# Altium footprint library NEC Footprints.PcbLib: 31 footprints (part 2 of 2)
Each footprint in its own frame and in the unit in brackets; x right, y up, seen from the top. Pads: shape width x height; smd on the part's side, far side on the other; paste and mask are expansions set on the pad; w line width, h text height; cw(c..) or ccw(c..) is an arc to the next point about the centre after c.
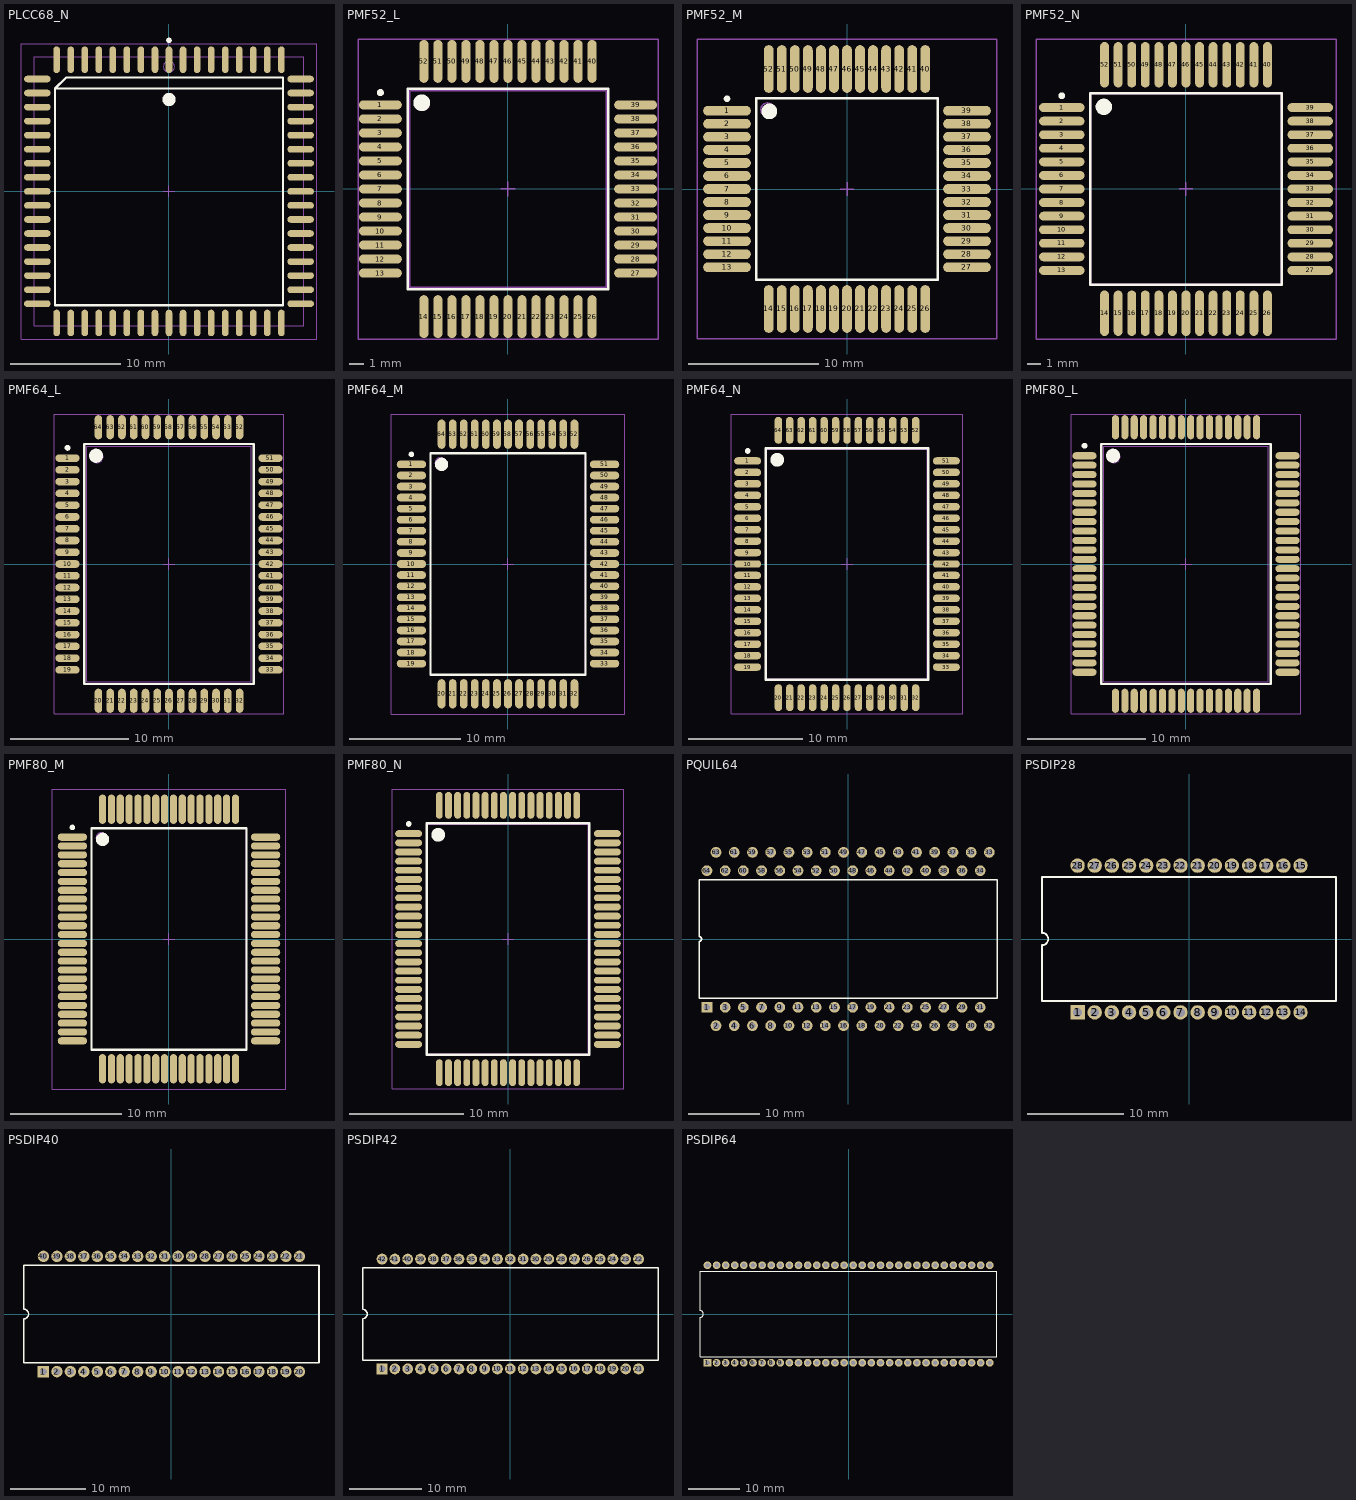
[diagram p1: the footprints below, top view; thin cyan lines are the x and y axes]

## PLCC68_N [mm] "68-Pin Leaded Chip Carrier 1.27 mm Pitch, IPC Medium Density"
height 4.6
pads (68):
  oval 0.6x2.4 smd: 1(0,11.9) 2(-1.27,11.9) 3(-2.54,11.9) 4(-3.81,11.9) 5(-5.08,11.9) 6(-6.35,11.9) 7(-7.62,11.9) 8(-8.89,11.9) 9(-10.16,11.9) 27(-10.16,-11.9) 28(-8.89,-11.9) 29(-7.62,-11.9) 30(-6.35,-11.9) 31(-5.08,-11.9) 32(-3.81,-11.9) 33(-2.54,-11.9) 34(-1.27,-11.9) 35(0,-11.9) 36(1.27,-11.9) 37(2.54,-11.9) 38(3.81,-11.9) 39(5.08,-11.9) 40(6.35,-11.9) 41(7.62,-11.9) 42(8.89,-11.9) 43(10.16,-11.9) 61(10.16,11.9) 62(8.89,11.9) 63(7.62,11.9) 64(6.35,11.9) 65(5.08,11.9) 66(3.81,11.9) 67(2.54,11.9) 68(1.27,11.9)
  oval 2.4x0.6 smd: 10(-11.9,10.16) 11(-11.9,8.89) 12(-11.9,7.62) 13(-11.9,6.35) 14(-11.9,5.08) 15(-11.9,3.81) 16(-11.9,2.54) 17(-11.9,1.27) 18(-11.9,0) 19(-11.9,-1.27) 20(-11.9,-2.54) 21(-11.9,-3.81) 22(-11.9,-5.08) 23(-11.9,-6.35) 24(-11.9,-7.62) 25(-11.9,-8.89) 26(-11.9,-10.16) 44(11.9,-10.16) 45(11.9,-8.89) 46(11.9,-7.62) 47(11.9,-6.35) 48(11.9,-5.08) 49(11.9,-3.81) 50(11.9,-2.54) 51(11.9,-1.27) 52(11.9,0) 53(11.9,1.27) 54(11.9,2.54) 55(11.9,3.81) 56(11.9,5.08) 57(11.9,6.35) 58(11.9,7.62) 59(11.9,8.89) 60(11.9,10.16)
Top Overlay:
  circle w0.25: c0,13.65 r0.125
  circle w0.6: c0,8.3 r0.3
  lines w0.2: 10.3,9.3 -10.3,9.3 ; -10.3,9.3 -9.3,10.3 10.3,10.3 10.3,-10.3 -10.3,-10.3 -10.3,9.3
Mechanical 13:
  circle w0.1: c0,11.265 r0.5
  lines w0.1: -12.165,-12.165 -12.165,12.165 12.165,12.165 12.165,-12.165 -12.165,-12.165
Mechanical 15:
  lines w0.1: -0.5,0 0.5,0 ; 0,-0.5 0,0.5 ; -13.35,-13.35 -13.35,13.35 13.35,13.35 13.35,-13.35 -13.35,-13.35
3D body: height 4.6, standoff 0, extent -12.165,-12.165 12.165,12.165

## PMF52_L [mm] "52-Pin Quad Flat Pack 1 mm Pitch, IPC High Density"
height 2.8
pads (52):
  oval 3.05x0.65 smd: 1(-9.1,6) 2(-9.1,5) 3(-9.1,4) 4(-9.1,3) 5(-9.1,2) 6(-9.1,1) 7(-9.1,0) 8(-9.1,-1) 9(-9.1,-2) 10(-9.1,-3) 11(-9.1,-4) 12(-9.1,-5) 13(-9.1,-6) 27(9.1,-6) 28(9.1,-5) 29(9.1,-4) 30(9.1,-3) 31(9.1,-2) 32(9.1,-1) 33(9.1,0) 34(9.1,1) 35(9.1,2) 36(9.1,3) 37(9.1,4) 38(9.1,5) 39(9.1,6)
  oval 0.65x3.05 smd: 14(-6,-9.1) 15(-5,-9.1) 16(-4,-9.1) 17(-3,-9.1) 18(-2,-9.1) 19(-1,-9.1) 20(0,-9.1) 21(1,-9.1) 22(2,-9.1) 23(3,-9.1) 24(4,-9.1) 25(5,-9.1) 26(6,-9.1) 40(6,9.1) 41(5,9.1) 42(4,9.1) 43(3,9.1) 44(2,9.1) 45(1,9.1) 46(0,9.1) 47(-1,9.1) 48(-2,9.1) 49(-3,9.1) 50(-4,9.1) 51(-5,9.1) 52(-6,9.1)
Top Overlay:
  circle w0.25: c-9.1,6.875 r0.125
  circle w0.6: c-6.15,6.15 r0.3
  lines w0.2: -7.15,-7.15 -7.15,7.15 7.15,7.15 7.15,-7.15 -7.15,-7.15
Mechanical 13:
  circle w0.1: c-6.1,6.1 r0.5
  lines w0.1: -7,-7 -7,7 7,7 7,-7 -7,-7
Mechanical 15:
  lines w0.1: -0.5,0 0.5,0 ; 0,-0.5 0,0.5 ; -10.7,-10.7 -10.7,10.7 10.7,10.7 10.7,-10.7 -10.7,-10.7
3D body: height 2.8, standoff 0, extent -7,-7 7,7

## PMF52_M [mm] "52-Pin Quad Flat Pack 1 mm Pitch, IPC Low Density"
height 2.8
pads (52):
  oval 3.65x0.75 smd: 1(-9.2,6) 2(-9.2,5) 3(-9.2,4) 4(-9.2,3) 5(-9.2,2) 6(-9.2,1) 7(-9.2,0) 8(-9.2,-1) 9(-9.2,-2) 10(-9.2,-3) 11(-9.2,-4) 12(-9.2,-5) 13(-9.2,-6) 27(9.2,-6) 28(9.2,-5) 29(9.2,-4) 30(9.2,-3) 31(9.2,-2) 32(9.2,-1) 33(9.2,0) 34(9.2,1) 35(9.2,2) 36(9.2,3) 37(9.2,4) 38(9.2,5) 39(9.2,6)
  oval 0.75x3.65 smd: 14(-6,-9.2) 15(-5,-9.2) 16(-4,-9.2) 17(-3,-9.2) 18(-2,-9.2) 19(-1,-9.2) 20(0,-9.2) 21(1,-9.2) 22(2,-9.2) 23(3,-9.2) 24(4,-9.2) 25(5,-9.2) 26(6,-9.2) 40(6,9.2) 41(5,9.2) 42(4,9.2) 43(3,9.2) 44(2,9.2) 45(1,9.2) 46(0,9.2) 47(-1,9.2) 48(-2,9.2) 49(-3,9.2) 50(-4,9.2) 51(-5,9.2) 52(-6,9.2)
Top Overlay:
  circle w0.25: c-9.2,6.925 r0.125
  circle w0.6: c-5.95,5.95 r0.3
  lines w0.2: -6.95,-6.95 -6.95,6.95 6.95,6.95 6.95,-6.95 -6.95,-6.95
Mechanical 13:
  circle w0.1: c-6.1,6.1 r0.5
  lines w0.1: -7,-7 -7,7 7,7 7,-7 -7,-7
Mechanical 15:
  lines w0.1: -0.5,0 0.5,0 ; 0,-0.5 0,0.5 ; -11.5,-11.5 -11.5,11.5 11.5,11.5 11.5,-11.5 -11.5,-11.5
3D body: height 2.8, standoff 0, extent -7,-7 7,7

## PMF52_N [mm] "52-Pin Quad Flat Pack 1 mm Pitch, IPC Medium Density"
height 2.8
pads (52):
  oval 3.35x0.65 smd: 1(-9.15,6) 2(-9.15,5) 3(-9.15,4) 4(-9.15,3) 5(-9.15,2) 6(-9.15,1) 7(-9.15,0) 8(-9.15,-1) 9(-9.15,-2) 10(-9.15,-3) 11(-9.15,-4) 12(-9.15,-5) 13(-9.15,-6) 27(9.15,-6) 28(9.15,-5) 29(9.15,-4) 30(9.15,-3) 31(9.15,-2) 32(9.15,-1) 33(9.15,0) 34(9.15,1) 35(9.15,2) 36(9.15,3) 37(9.15,4) 38(9.15,5) 39(9.15,6)
  oval 0.65x3.35 smd: 14(-6,-9.15) 15(-5,-9.15) 16(-4,-9.15) 17(-3,-9.15) 18(-2,-9.15) 19(-1,-9.15) 20(0,-9.15) 21(1,-9.15) 22(2,-9.15) 23(3,-9.15) 24(4,-9.15) 25(5,-9.15) 26(6,-9.15) 40(6,9.15) 41(5,9.15) 42(4,9.15) 43(3,9.15) 44(2,9.15) 45(1,9.15) 46(0,9.15) 47(-1,9.15) 48(-2,9.15) 49(-3,9.15) 50(-4,9.15) 51(-5,9.15) 52(-6,9.15)
Top Overlay:
  circle w0.25: c-9.15,6.875 r0.125
  circle w0.6: c-6.05,6.05 r0.3
  lines w0.2: -7.05,-7.05 -7.05,7.05 7.05,7.05 7.05,-7.05 -7.05,-7.05
Mechanical 13:
  circle w0.1: c-6.1,6.1 r0.5
  lines w0.1: -7,-7 -7,7 7,7 7,-7 -7,-7
Mechanical 15:
  lines w0.1: -0.5,0 0.5,0 ; 0,-0.5 0,0.5 ; -11.05,-11.05 -11.05,11.05 11.05,11.05 11.05,-11.05 -11.05,-11.05
3D body: height 2.8, standoff 0, extent -7,-7 7,7

## PMF64_L [mm] "64-Pin Quad Flat Pack Rectangular 1 mm Pitch, IPC High Density"
height 2.3
pads (64):
  oval 2.05x0.65 smd: 1(-8.625,9) 2(-8.625,8) 3(-8.625,7) 4(-8.625,6) 5(-8.625,5) 6(-8.625,4) 7(-8.625,3) 8(-8.625,2) 9(-8.625,1) 10(-8.625,0) 11(-8.625,-1) 12(-8.625,-2) 13(-8.625,-3) 14(-8.625,-4) 15(-8.625,-5) 16(-8.625,-6) 17(-8.625,-7) 18(-8.625,-8) 19(-8.625,-9) 33(8.625,-9) 34(8.625,-8) 35(8.625,-7) 36(8.625,-6) 37(8.625,-5) 38(8.625,-4) 39(8.625,-3) 40(8.625,-2) 41(8.625,-1) 42(8.625,0) 43(8.625,1) 44(8.625,2) 45(8.625,3) 46(8.625,4) 47(8.625,5) 48(8.625,6) 49(8.625,7) 50(8.625,8) 51(8.625,9)
  oval 0.65x2.05 smd: 20(-6,-11.625) 21(-5,-11.625) 22(-4,-11.625) 23(-3,-11.625) 24(-2,-11.625) 25(-1,-11.625) 26(0,-11.625) 27(1,-11.625) 28(2,-11.625) 29(3,-11.625) 30(4,-11.625) 31(5,-11.625) 32(6,-11.625) 52(6,11.625) 53(5,11.625) 54(4,11.625) 55(3,11.625) 56(2,11.625) 57(1,11.625) 58(0,11.625) 59(-1,11.625) 60(-2,11.625) 61(-3,11.625) 62(-4,11.625) 63(-5,11.625) 64(-6,11.625)
Top Overlay:
  circle w0.6: c-6.2,9.2 r0.3
  circle w0.25: c-8.625,9.875 r0.125
  lines w0.2: -7.2,-10.2 7.2,-10.2 7.2,10.2 -7.2,10.2 -7.2,-10.2
Mechanical 13:
  circle w0.1: c-6.1,9.1 r0.5
  lines w0.1: -7,-10 7,-10 7,10 -7,10 -7,-10
Mechanical 15:
  lines w0.1: -0.5,0 0.5,0 ; 0,-0.5 0,0.5 ; -9.75,-12.75 9.75,-12.75 9.75,12.75 -9.75,12.75 -9.75,-12.75
3D body: height 2.3, standoff 0, extent -7,-10 7,10

## PMF64_M [mm] "64-Pin Quad Flat Pack Rectangular 1 mm Pitch, IPC Low Density"
height 2.3
pads (64):
  oval 2.65x0.7 smd: 1(-8.725,9) 2(-8.725,8) 3(-8.725,7) 4(-8.725,6) 5(-8.725,5) 6(-8.725,4) 7(-8.725,3) 8(-8.725,2) 9(-8.725,1) 10(-8.725,0) 11(-8.725,-1) 12(-8.725,-2) 13(-8.725,-3) 14(-8.725,-4) 15(-8.725,-5) 16(-8.725,-6) 17(-8.725,-7) 18(-8.725,-8) 19(-8.725,-9) 33(8.725,-9) 34(8.725,-8) 35(8.725,-7) 36(8.725,-6) 37(8.725,-5) 38(8.725,-4) 39(8.725,-3) 40(8.725,-2) 41(8.725,-1) 42(8.725,0) 43(8.725,1) 44(8.725,2) 45(8.725,3) 46(8.725,4) 47(8.725,5) 48(8.725,6) 49(8.725,7) 50(8.725,8) 51(8.725,9)
  oval 0.7x2.65 smd: 20(-6,-11.725) 21(-5,-11.725) 22(-4,-11.725) 23(-3,-11.725) 24(-2,-11.725) 25(-1,-11.725) 26(0,-11.725) 27(1,-11.725) 28(2,-11.725) 29(3,-11.725) 30(4,-11.725) 31(5,-11.725) 32(6,-11.725) 52(6,11.725) 53(5,11.725) 54(4,11.725) 55(3,11.725) 56(2,11.725) 57(1,11.725) 58(0,11.725) 59(-1,11.725) 60(-2,11.725) 61(-3,11.725) 62(-4,11.725) 63(-5,11.725) 64(-6,11.725)
Top Overlay:
  circle w0.25: c-8.725,9.9 r0.125
  circle w0.6: c-6,9 r0.3
  lines w0.2: -7,-10 -7,10 7,10 7,-10 -7,-10
Mechanical 13:
  circle w0.1: c-6.1,9.1 r0.5
  lines w0.1: -7,-10 -7,10 7,10 7,-10 -7,-10
Mechanical 15:
  lines w0.1: -0.5,0 0.5,0 ; 0,-0.5 0,0.5 ; -10.55,-13.55 -10.55,13.55 10.55,13.55 10.55,-13.55 -10.55,-13.55
3D body: height 2.3, standoff 0, extent -7,-10 7,10

## PMF64_N [mm] "64-Pin Quad Flat Pack Rectangular 1 mm Pitch, IPC Medium Density"
height 2.3
pads (64):
  oval 2.35x0.65 smd: 1(-8.675,9) 2(-8.675,8) 3(-8.675,7) 4(-8.675,6) 5(-8.675,5) 6(-8.675,4) 7(-8.675,3) 8(-8.675,2) 9(-8.675,1) 10(-8.675,0) 11(-8.675,-1) 12(-8.675,-2) 13(-8.675,-3) 14(-8.675,-4) 15(-8.675,-5) 16(-8.675,-6) 17(-8.675,-7) 18(-8.675,-8) 19(-8.675,-9) 33(8.675,-9) 34(8.675,-8) 35(8.675,-7) 36(8.675,-6) 37(8.675,-5) 38(8.675,-4) 39(8.675,-3) 40(8.675,-2) 41(8.675,-1) 42(8.675,0) 43(8.675,1) 44(8.675,2) 45(8.675,3) 46(8.675,4) 47(8.675,5) 48(8.675,6) 49(8.675,7) 50(8.675,8) 51(8.675,9)
  oval 0.65x2.35 smd: 20(-6,-11.675) 21(-5,-11.675) 22(-4,-11.675) 23(-3,-11.675) 24(-2,-11.675) 25(-1,-11.675) 26(0,-11.675) 27(1,-11.675) 28(2,-11.675) 29(3,-11.675) 30(4,-11.675) 31(5,-11.675) 32(6,-11.675) 52(6,11.675) 53(5,11.675) 54(4,11.675) 55(3,11.675) 56(2,11.675) 57(1,11.675) 58(0,11.675) 59(-1,11.675) 60(-2,11.675) 61(-3,11.675) 62(-4,11.675) 63(-5,11.675) 64(-6,11.675)
Top Overlay:
  circle w0.6: c-6.1,9.1 r0.3
  circle w0.25: c-8.675,9.875 r0.125
  lines w0.2: -7.1,-10.1 7.1,-10.1 7.1,10.1 -7.1,10.1 -7.1,-10.1
Mechanical 13:
  circle w0.1: c-6.1,9.1 r0.5
  lines w0.1: -7,-10 7,-10 7,10 -7,10 -7,-10
Mechanical 15:
  lines w0.1: -0.5,0 0.5,0 ; 0,-0.5 0,0.5 ; -10.1,-13.1 10.1,-13.1 10.1,13.1 -10.1,13.1 -10.1,-13.1
3D body: height 2.3, standoff 0, extent -7,-10 7,10

## PMF80_L [mm] "80-Pin Quad Flat Pack Rectangular 0.8 mm Pitch, IPC High Density"
height 2.3
pads (80):
  oval 2.05x0.6 smd: 1(-8.625,9.2) 2(-8.625,8.4) 3(-8.625,7.6) 4(-8.625,6.8) 5(-8.625,6) 6(-8.625,5.2) 7(-8.625,4.4) 8(-8.625,3.6) 9(-8.625,2.8) 10(-8.625,2) 11(-8.625,1.2) 12(-8.625,0.4) 13(-8.625,-0.4) 14(-8.625,-1.2) 15(-8.625,-2) 16(-8.625,-2.8) 17(-8.625,-3.6) 18(-8.625,-4.4) 19(-8.625,-5.2) 20(-8.625,-6) 21(-8.625,-6.8) 22(-8.625,-7.6) 23(-8.625,-8.4) 24(-8.625,-9.2) 41(8.625,-9.2) 42(8.625,-8.4) 43(8.625,-7.6) 44(8.625,-6.8) 45(8.625,-6) 46(8.625,-5.2) 47(8.625,-4.4) 48(8.625,-3.6) 49(8.625,-2.8) 50(8.625,-2) 51(8.625,-1.2) 52(8.625,-0.4) 53(8.625,0.4) 54(8.625,1.2) 55(8.625,2) 56(8.625,2.8) 57(8.625,3.6) 58(8.625,4.4) 59(8.625,5.2) 60(8.625,6) 61(8.625,6.8) 62(8.625,7.6) 63(8.625,8.4) 64(8.625,9.2)
  oval 0.6x2.05 smd: 25(-6,-11.625) 26(-5.2,-11.625) 27(-4.4,-11.625) 28(-3.6,-11.625) 29(-2.8,-11.625) 30(-2,-11.625) 31(-1.2,-11.625) 32(-0.4,-11.625) 33(0.4,-11.625) 34(1.2,-11.625) 35(2,-11.625) 36(2.8,-11.625) 37(3.6,-11.625) 38(4.4,-11.625) 39(5.2,-11.625) 40(6,-11.625) 65(6,11.625) 66(5.2,11.625) 67(4.4,11.625) 68(3.6,11.625) 69(2.8,11.625) 70(2,11.625) 71(1.2,11.625) 72(0.4,11.625) 73(-0.4,11.625) 74(-1.2,11.625) 75(-2,11.625) 76(-2.8,11.625) 77(-3.6,11.625) 78(-4.4,11.625) 79(-5.2,11.625) 80(-6,11.625)
Top Overlay:
  circle w0.6: c-6.2,9.2 r0.3
  circle w0.25: c-8.625,10.05 r0.125
  lines w0.2: -7.2,-10.2 7.2,-10.2 7.2,10.2 -7.2,10.2 -7.2,-10.2
Mechanical 13:
  circle w0.1: c-6.1,9.1 r0.5
  lines w0.1: -7,-10 7,-10 7,10 -7,10 -7,-10
Mechanical 15:
  lines w0.1: -0.5,0 0.5,0 ; 0,-0.5 0,0.5 ; -9.75,-12.75 9.75,-12.75 9.75,12.75 -9.75,12.75 -9.75,-12.75
3D body: height 2.3, standoff 0, extent -7,-10 7,10

## PMF80_M [mm] "80-Pin Quad Flat Pack Rectangular 0.8 mm Pitch, IPC Low Density"
height 2.3
pads (80):
  oval 2.65x0.65 smd: 1(-8.725,9.2) 2(-8.725,8.4) 3(-8.725,7.6) 4(-8.725,6.8) 5(-8.725,6) 6(-8.725,5.2) 7(-8.725,4.4) 8(-8.725,3.6) 9(-8.725,2.8) 10(-8.725,2) 11(-8.725,1.2) 12(-8.725,0.4) 13(-8.725,-0.4) 14(-8.725,-1.2) 15(-8.725,-2) 16(-8.725,-2.8) 17(-8.725,-3.6) 18(-8.725,-4.4) 19(-8.725,-5.2) 20(-8.725,-6) 21(-8.725,-6.8) 22(-8.725,-7.6) 23(-8.725,-8.4) 24(-8.725,-9.2) 41(8.725,-9.2) 42(8.725,-8.4) 43(8.725,-7.6) 44(8.725,-6.8) 45(8.725,-6) 46(8.725,-5.2) 47(8.725,-4.4) 48(8.725,-3.6) 49(8.725,-2.8) 50(8.725,-2) 51(8.725,-1.2) 52(8.725,-0.4) 53(8.725,0.4) 54(8.725,1.2) 55(8.725,2) 56(8.725,2.8) 57(8.725,3.6) 58(8.725,4.4) 59(8.725,5.2) 60(8.725,6) 61(8.725,6.8) 62(8.725,7.6) 63(8.725,8.4) 64(8.725,9.2)
  oval 0.65x2.65 smd: 25(-6,-11.725) 26(-5.2,-11.725) 27(-4.4,-11.725) 28(-3.6,-11.725) 29(-2.8,-11.725) 30(-2,-11.725) 31(-1.2,-11.725) 32(-0.4,-11.725) 33(0.4,-11.725) 34(1.2,-11.725) 35(2,-11.725) 36(2.8,-11.725) 37(3.6,-11.725) 38(4.4,-11.725) 39(5.2,-11.725) 40(6,-11.725) 65(6,11.725) 66(5.2,11.725) 67(4.4,11.725) 68(3.6,11.725) 69(2.8,11.725) 70(2,11.725) 71(1.2,11.725) 72(0.4,11.725) 73(-0.4,11.725) 74(-1.2,11.725) 75(-2,11.725) 76(-2.8,11.725) 77(-3.6,11.725) 78(-4.4,11.725) 79(-5.2,11.725) 80(-6,11.725)
Top Overlay:
  circle w0.6: c-6,9 r0.3
  circle w0.25: c-8.725,10.075 r0.125
  lines w0.2: -7,-10 7,-10 7,10 -7,10 -7,-10
Mechanical 13:
  circle w0.1: c-6.1,9.1 r0.5
  lines w0.1: -7,-10 7,-10 7,10 -7,10 -7,-10
Mechanical 15:
  lines w0.1: -0.5,0 0.5,0 ; 0,-0.5 0,0.5 ; -10.55,-13.55 10.55,-13.55 10.55,13.55 -10.55,13.55 -10.55,-13.55
3D body: height 2.3, standoff 0, extent -7,-10 7,10

## PMF80_N [mm] "80-Pin Quad Flat Pack Rectangular 0.8 mm Pitch, IPC Medium Density"
height 2.3
pads (80):
  oval 2.35x0.6 smd: 1(-8.675,9.2) 2(-8.675,8.4) 3(-8.675,7.6) 4(-8.675,6.8) 5(-8.675,6) 6(-8.675,5.2) 7(-8.675,4.4) 8(-8.675,3.6) 9(-8.675,2.8) 10(-8.675,2) 11(-8.675,1.2) 12(-8.675,0.4) 13(-8.675,-0.4) 14(-8.675,-1.2) 15(-8.675,-2) 16(-8.675,-2.8) 17(-8.675,-3.6) 18(-8.675,-4.4) 19(-8.675,-5.2) 20(-8.675,-6) 21(-8.675,-6.8) 22(-8.675,-7.6) 23(-8.675,-8.4) 24(-8.675,-9.2) 41(8.675,-9.2) 42(8.675,-8.4) 43(8.675,-7.6) 44(8.675,-6.8) 45(8.675,-6) 46(8.675,-5.2) 47(8.675,-4.4) 48(8.675,-3.6) 49(8.675,-2.8) 50(8.675,-2) 51(8.675,-1.2) 52(8.675,-0.4) 53(8.675,0.4) 54(8.675,1.2) 55(8.675,2) 56(8.675,2.8) 57(8.675,3.6) 58(8.675,4.4) 59(8.675,5.2) 60(8.675,6) 61(8.675,6.8) 62(8.675,7.6) 63(8.675,8.4) 64(8.675,9.2)
  oval 0.6x2.35 smd: 25(-6,-11.675) 26(-5.2,-11.675) 27(-4.4,-11.675) 28(-3.6,-11.675) 29(-2.8,-11.675) 30(-2,-11.675) 31(-1.2,-11.675) 32(-0.4,-11.675) 33(0.4,-11.675) 34(1.2,-11.675) 35(2,-11.675) 36(2.8,-11.675) 37(3.6,-11.675) 38(4.4,-11.675) 39(5.2,-11.675) 40(6,-11.675) 65(6,11.675) 66(5.2,11.675) 67(4.4,11.675) 68(3.6,11.675) 69(2.8,11.675) 70(2,11.675) 71(1.2,11.675) 72(0.4,11.675) 73(-0.4,11.675) 74(-1.2,11.675) 75(-2,11.675) 76(-2.8,11.675) 77(-3.6,11.675) 78(-4.4,11.675) 79(-5.2,11.675) 80(-6,11.675)
Top Overlay:
  circle w0.6: c-6.1,9.1 r0.3
  circle w0.25: c-8.675,10.05 r0.125
  lines w0.2: -7.1,-10.1 7.1,-10.1 7.1,10.1 -7.1,10.1 -7.1,-10.1
Mechanical 13:
  circle w0.1: c-6.1,9.1 r0.5
  lines w0.1: -7,-10 7,-10 7,10 -7,10 -7,-10
Mechanical 15:
  lines w0.1: -0.5,0 0.5,0 ; 0,-0.5 0,0.5 ; -10.1,-13.1 10.1,-13.1 10.1,13.1 -10.1,13.1 -10.1,-13.1
3D body: height 2.3, standoff 0, extent -7,-10 7,10

## PQUIL64 [mm] "QUIP; 64 Leads, in two Staggered Rows, each of 2.54 mm pitch"
height 3.6
pads (64):
  rect 1.5x1.5 hole 0.9: 1(-19.685,-9.525)
  round 1.5 hole 0.9: 2(-18.415,-12.075) 3(-17.145,-9.525) 4(-15.875,-12.075) 5(-14.605,-9.525) 6(-13.335,-12.075) 7(-12.065,-9.525) 8(-10.795,-12.075) 9(-9.525,-9.525) 10(-8.255,-12.075) 11(-6.985,-9.525) 12(-5.715,-12.075) 13(-4.445,-9.525) 14(-3.175,-12.075) 15(-1.905,-9.525) 16(-0.635,-12.075) 17(0.635,-9.525) 18(1.905,-12.075) 19(3.175,-9.525) 20(4.445,-12.075) 21(5.715,-9.525) 22(6.985,-12.075) 23(8.255,-9.525) 24(9.525,-12.075) 25(10.795,-9.525) 26(12.065,-12.075) 27(13.335,-9.525) 28(14.605,-12.075) 29(15.875,-9.525) 30(17.145,-12.075) 31(18.415,-9.525) 32(19.685,-12.075) 33(19.685,12.075) 34(18.415,9.525) 35(17.145,12.075) 36(15.875,9.525) 37(14.605,12.075) 38(13.335,9.525) 39(12.065,12.075) 40(10.795,9.525) 41(9.525,12.075) 42(8.255,9.525) 43(6.985,12.075) 44(5.715,9.525) 45(4.445,12.075) 46(3.175,9.525) 47(1.905,12.075) 48(0.635,9.525) 49(-0.635,12.075) 50(-1.905,9.525) 51(-3.175,12.075) 52(-4.445,9.525) 53(-5.715,12.075) 54(-6.985,9.525) 55(-8.255,12.075) 56(-9.525,9.525) 57(-10.795,12.075) 58(-12.065,9.525) 59(-13.335,12.075) 60(-14.605,9.525) 61(-15.875,12.075) 62(-17.145,9.525) 63(-18.415,12.075) 64(-19.685,9.525)
Top Overlay:
  lines w0.2: -20.75,-8.25 20.75,-8.25 20.75,8.25 -20.75,8.25 -20.75,0.318 cw(c-20.75,0) -20.75,-0.318 -20.75,-8.25

## PSDIP28 [mm] "DIP; 28 Leads; Row Spacing 15.24 mm; Pitch 1.778 mm"
height 5.08
pads (28):
  rect 1.5x1.5 hole 0.9: 1(-11.57,-7.62)
  round 1.5 hole 0.9: 2(-9.79,-7.62) 3(-8.01,-7.62) 4(-6.23,-7.62) 5(-4.45,-7.62) 6(-2.67,-7.62) 7(-0.89,-7.62) 8(0.89,-7.62) 9(2.67,-7.62) 10(4.45,-7.62) 11(6.23,-7.62) 12(8.01,-7.62) 13(9.79,-7.62) 14(11.57,-7.62) 15(11.57,7.62) 16(9.79,7.62) 17(8.01,7.62) 18(6.23,7.62) 19(4.45,7.62) 20(2.67,7.62) 21(0.89,7.62) 22(-0.89,7.62) 23(-2.67,7.62) 24(-4.45,7.62) 25(-6.23,7.62) 26(-8.01,7.62) 27(-9.79,7.62) 28(-11.57,7.62)
Top Overlay:
  lines w0.2: -15.25,-6.45 -15.25,-0.635 ccw(c-15.25,0) -15.25,0.635 -15.25,6.45 15.25,6.45 15.25,-6.45 -15.25,-6.45

## PSDIP40 [mm] "DIP; 40 Leads; Row Spacing 15.24 mm; Pitch 1.778 mm"
height 5.08
pads (40):
  rect 1.5x1.5 hole 0.9: 1(-16.91,-7.62)
  round 1.5 hole 0.9: 2(-15.13,-7.62) 3(-13.35,-7.62) 4(-11.57,-7.62) 5(-9.79,-7.62) 6(-8.01,-7.62) 7(-6.23,-7.62) 8(-4.45,-7.62) 9(-2.67,-7.62) 10(-0.89,-7.62) 11(0.89,-7.62) 12(2.67,-7.62) 13(4.45,-7.62) 14(6.23,-7.62) 15(8.01,-7.62) 16(9.79,-7.62) 17(11.57,-7.62) 18(13.35,-7.62) 19(15.13,-7.62) 20(16.91,-7.62) 21(16.91,7.62) 22(15.13,7.62) 23(13.35,7.62) 24(11.57,7.62) 25(9.79,7.62) 26(8.01,7.62) 27(6.23,7.62) 28(4.45,7.62) 29(2.67,7.62) 30(0.89,7.62) 31(-0.89,7.62) 32(-2.67,7.62) 33(-4.45,7.62) 34(-6.23,7.62) 35(-8.01,7.62) 36(-9.79,7.62) 37(-11.57,7.62) 38(-13.35,7.62) 39(-15.13,7.62) 40(-16.91,7.62)
Top Overlay:
  lines w0.2: -19.5,-6.45 -19.5,-0.635 ccw(c-19.5,0) -19.5,0.635 -19.5,6.45 19.5,6.45 19.5,-6.45 -19.5,-6.45

## PSDIP42 [mm] "DIP; 42 Leads; Row Spacing 15.24 mm; Pitch 1.778 mm"
height 5.08
pads (42):
  rect 1.5x1.5 hole 0.9: 1(-17.8,-7.62)
  round 1.5 hole 0.9: 2(-16.02,-7.62) 3(-14.24,-7.62) 4(-12.46,-7.62) 5(-10.68,-7.62) 6(-8.9,-7.62) 7(-7.12,-7.62) 8(-5.34,-7.62) 9(-3.56,-7.62) 10(-1.78,-7.62) 11(0,-7.62) 12(1.78,-7.62) 13(3.56,-7.62) 14(5.34,-7.62) 15(7.12,-7.62) 16(8.9,-7.62) 17(10.68,-7.62) 18(12.46,-7.62) 19(14.24,-7.62) 20(16.02,-7.62) 21(17.8,-7.62) 22(17.8,7.62) 23(16.02,7.62) 24(14.24,7.62) 25(12.46,7.62) 26(10.68,7.62) 27(8.9,7.62) 28(7.12,7.62) 29(5.34,7.62) 30(3.56,7.62) 31(1.78,7.62) 32(0,7.62) 33(-1.78,7.62) 34(-3.56,7.62) 35(-5.34,7.62) 36(-7.12,7.62) 37(-8.9,7.62) 38(-10.68,7.62) 39(-12.46,7.62) 40(-14.24,7.62) 41(-16.02,7.62) 42(-17.8,7.62)
Top Overlay:
  lines w0.2: -20.5,-6.45 20.5,-6.45 20.5,6.45 -20.5,6.45 -20.5,0.635 cw(c-20.5,0) -20.5,-0.635 -20.5,-6.45

## PSDIP64 [mm] "DIP; 64 Leads; Row Spacing 19.05 mm; Pitch 1.778 mm"
height 4.8
pads (64):
  rect 1.5x1.5 hole 0.9: 1(-27.59,-9.525)
  round 1.5 hole 0.9: 2(-25.81,-9.525) 3(-24.03,-9.525) 4(-22.25,-9.525) 5(-20.47,-9.525) 6(-18.69,-9.525) 7(-16.91,-9.525) 8(-15.13,-9.525) 9(-13.35,-9.525) 10(-11.57,-9.525) 11(-9.79,-9.525) 12(-8.01,-9.525) 13(-6.23,-9.525) 14(-4.45,-9.525) 15(-2.67,-9.525) 16(-0.89,-9.525) 17(0.89,-9.525) 18(2.67,-9.525) 19(4.45,-9.525) 20(6.23,-9.525) 21(8.01,-9.525) 22(9.79,-9.525) 23(11.57,-9.525) 24(13.35,-9.525) 25(15.13,-9.525) 26(16.91,-9.525) 27(18.69,-9.525) 28(20.47,-9.525) 29(22.25,-9.525) 30(24.03,-9.525) 31(25.81,-9.525) 32(27.59,-9.525) 33(27.59,9.525) 34(25.81,9.525) 35(24.03,9.525) 36(22.25,9.525) 37(20.47,9.525) 38(18.69,9.525) 39(16.91,9.525) 40(15.13,9.525) 41(13.35,9.525) 42(11.57,9.525) 43(9.79,9.525) 44(8.01,9.525) 45(6.23,9.525) 46(4.45,9.525) 47(2.67,9.525) 48(0.89,9.525) 49(-0.89,9.525) 50(-2.67,9.525) 51(-4.45,9.525) 52(-6.23,9.525) 53(-8.01,9.525) 54(-9.79,9.525) 55(-11.57,9.525) 56(-13.35,9.525) 57(-15.13,9.525) 58(-16.91,9.525) 59(-18.69,9.525) 60(-20.47,9.525) 61(-22.25,9.525) 62(-24.03,9.525) 63(-25.81,9.525) 64(-27.59,9.525)
Top Overlay:
  lines w0.2: -29,-8.35 29,-8.35 29,8.35 -29,8.35 -29,0.635 cw(c-29,0) -29,-0.635 -29,-8.35